# Altium schematic symbol library esquematicos_librerias.SchLib: 10 symbols
Pins are listed as number, name and electrical type; pins without a type are passive.

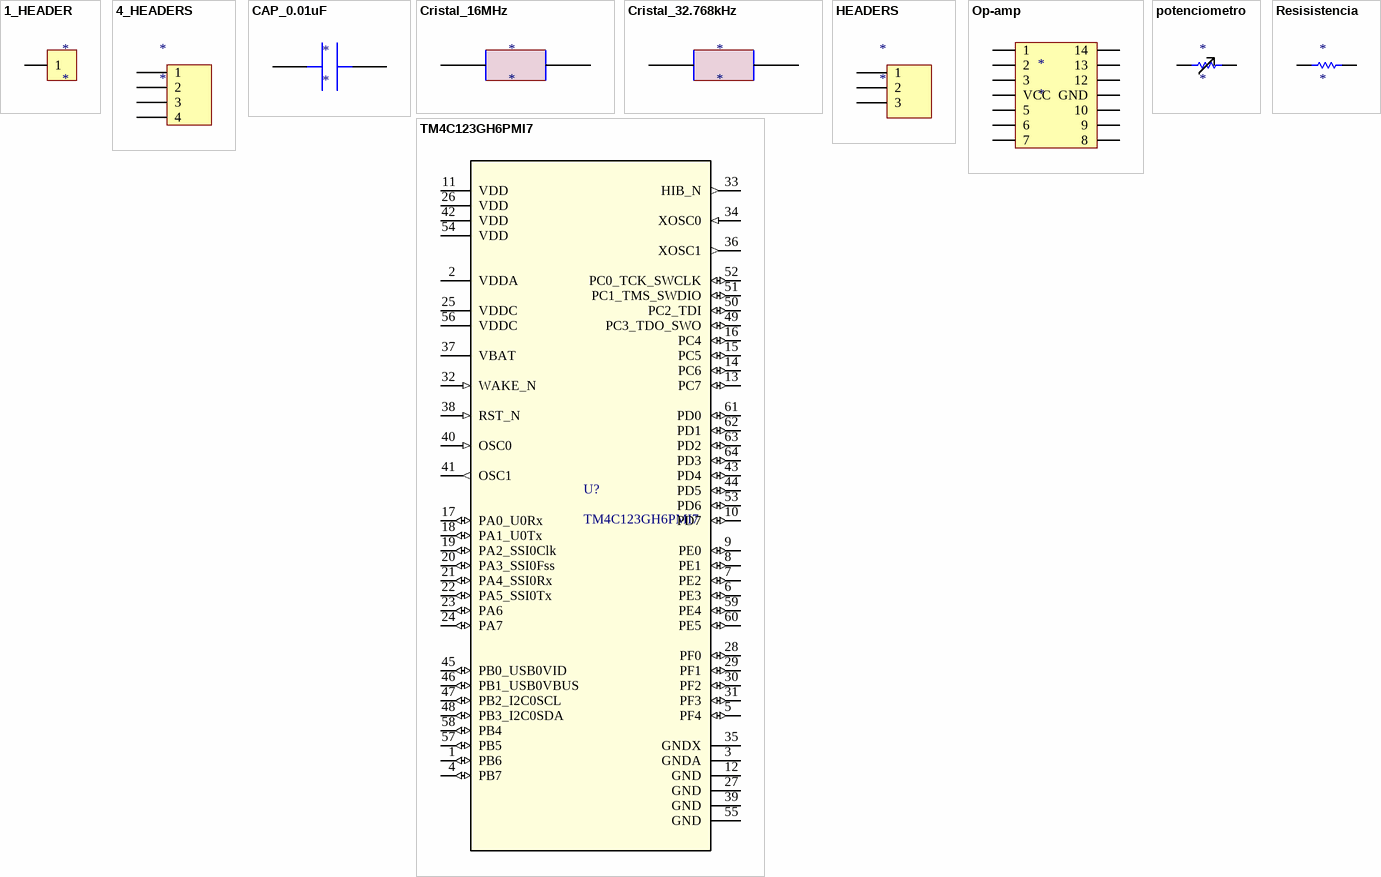
[diagram p0: symbols 1_HEADER to TM4C123GH6PMI7]

## 1_HEADER
designator *
footprint 1_HEADER
pins: 1

## 4_HEADERS
designator *
footprint 4_HEADERS
pins: 1, 2, 3, 4

## CAP_0.01uF
designator *
Supplier 1: Digi-Key; Supplier Part Number 1: 587-1223-6-ND
footprint Capacitor
pins: 1 9, 2 10

## Cristal_16MHz
designator *
footprint cristal_16MHz
pins: 1 73, 2 74

## Cristal_32.768kHz
designator *
footprint Cristal_32.768
pins: 1 73, 2 74

## HEADERS
designator *
footprint 2_PIN_HEADER
pins: 1, 2, 3

## Op-amp
designator *
footprint Op-amp
pins: 1, 2, 3, 4 VCC, 5, 6, 7, 8, 9, 10, 11 GND, 12, 13, 14

## potenciometro
designator *
footprint Potenciometro
pins: 1, 2, 3

## Resisistencia
designator *
footprint resistencia
pins: 1, 2

## TM4C123GH6PMI7
designator U?
No Description Available; Mfr_Name: Texas Instruments; PartNumber: TM4C123GH6PMTR; Alternate_PartNumber: TM4C123GH6PMT; CompType: IC; Type: DEV; RefDes: RefDes; Copyright: Copyright (C) 2021 Ultra Librarian. All rights reserved.; Manufacturer_Part_Number: TM4C123GH6PMI7; Application_BuildNumber: *; PackageReference: PM0064A; MountType: SMT; RoHS: Y; Manufacturer: Texas Instruments
footprint PM0064A_N
pins: 1 PB6 (io), 2 VDDA (power), 3 GNDA (power), 4 PB7 (io), 5 PF4 (io), 6 PE3 (io), 7 PE2 (io), 8 PE1 (io), 9 PE0 (io), 10 PD7 (io), 11 VDD (power), 12 GND (power), 13 PC7 (io), 14 PC6 (io), 15 PC5 (io), 16 PC4 (io), 17 PA0_U0Rx (io), 18 PA1_U0Tx (io), 19 PA2_SSI0Clk (io), 20 PA3_SSI0Fss (io), 21 PA4_SSI0Rx (io), 22 PA5_SSI0Tx (io), 23 PA6 (io), 24 PA7 (io), 25 VDDC (power), 26 VDD (power), 27 GND (power), 28 PF0 (io), 29 PF1 (io), 30 PF2 (io), 31 PF3 (io), 32 WAKE_N (in), 33 HIB_N (out), 34 XOSC0 (in), 35 GNDX (power), 36 XOSC1 (out), 37 VBAT (power), 38 RST_N (in), 39 GND (power), 40 OSC0 (in), 41 OSC1 (out), 42 VDD (power), 43 PD4 (io), 44 PD5 (io), 45 PB0_USB0VID (io), 46 PB1_USB0VBUS (io), 47 PB2_I2C0SCL (io), 48 PB3_I2C0SDA (io), 49 PC3_TDO_SWO (io), 50 PC2_TDI (io), 51 PC1_TMS_SWDIO (io), 52 PC0_TCK_SWCLK (io), 53 PD6 (io), 54 VDD (power), 55 GND (power), 56 VDDC (power), 57 PB5 (io), 58 PB4 (io), 59 PE4 (io), 60 PE5 (io), 61 PD0 (io), 62 PD1 (io), 63 PD2 (io), 64 PD3 (io)